# Altium schematic symbol library LM2596S.SchLib: 1 symbol
Pins are listed as number, name and electrical type; pins without a type are passive.

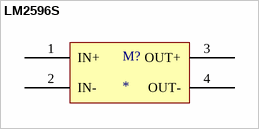
[diagram p0: symbol LM2596S]

## LM2596S
designator M?
footprint LM2596S
pins: 1 IN+, 2 IN-, 3 OUT+, 4 OUT-